# Altium integrated library WE-CMS Common Mode SMD Bead.IntLib: 1 symbol
Pins are listed as number, name and electrical type; pins without a type are passive.

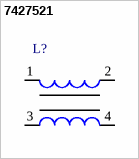
[diagram p0: symbol 7427521]

## 7427521
designator L?
Common Mode SMD Bead WE-CMS, Z = 52 Ohm; PartNumber: 7427521; Impedance: 52 Ohm; DatasheetVersion: ver 8, Jul-2010; PackageReference: WE-CMS; PackageDescription: Inductor, 4-Leads, Body 8.5 x 5.6 mm; ComponentLink1Description: Manufacturer URL; ComponentLink1URL: http://www.we-online.com; ComponentLink2Description: Datasheet; ComponentLink2URL: http://www.we-online.de/katalog/media/pdf/7427521.pdf
footprint WE-CMS (Inductor, 4-Leads, Body 8.5x5.6x3.2 mm)
pins: 1, 2, 3, 4